# EAGLE library part NL27WZ04DTT1G (library SamacSys_Parts)
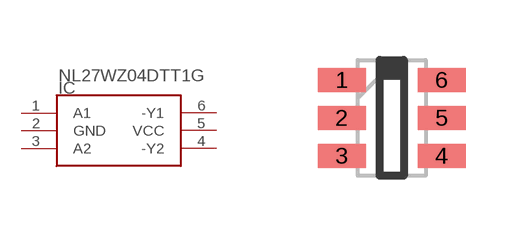
[diagram p7: symbol with the pads of SOT23-6; footprint SOT23-6]

Designator prefix IC

## NL27WZ04DTT1G  [SOT23-6]
1  A1
2  GND  pwr
3  A2
4  -Y2
5  VCC  pwr
6  -Y1  pwr

## Footprint SOT23-6 (pad centres in mm)
5-Lead SOT-23
smd 1.2 x 0.6: 1 -1.25,0.95; 2 -1.25,0; 3 -1.25,-0.95; 4 1.25,-0.95; 5 1.25,0; 6 1.25,0.95